# Altium schematic symbol library AT24CX9.SchLib: 1 symbol
Pins are listed as number, name and electrical type; pins without a type are passive.

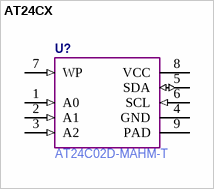
[diagram p0: symbol AT24CX]

## AT24CX
designator U?, comment Manufacturer Part Number: AT24C02D-MAHM-T  (hidden comment: AT24CX9)
EEPROM PB/HALO free NiPdAu, 1.7V
pins: 1 A0 (in), 2 A1 (in), 3 A2 (in), 4 GND (power), 5 SDA (io), 6 SCL (in), 7 WP (in), 8 VCC (power), 9 PAD (power)